# EAGLE library part CON_02X06 (library PP_Connectors)
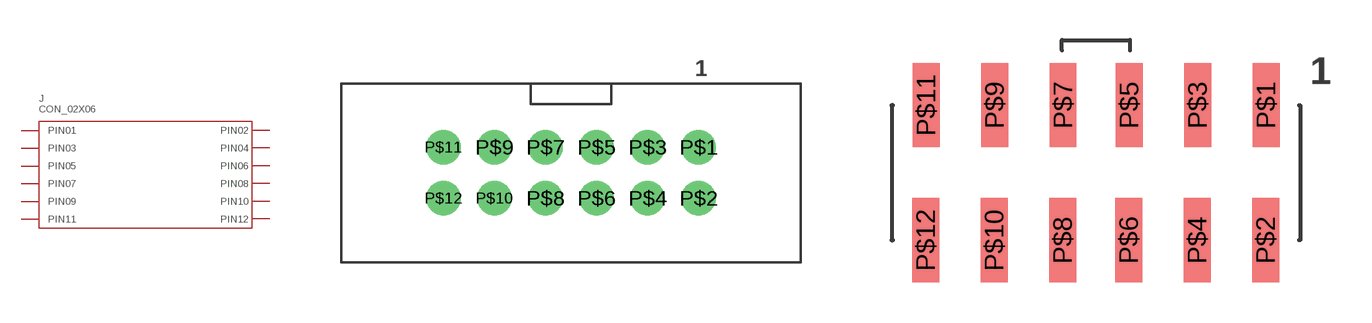
[diagram p29: symbol with the pads of 70246-1201; footprints 70246-1201, M20-8760642]

Designator prefix J

## CON_02X06_70246-1201  [70246-1201]
P$1  PIN1
P$2  PIN2
P$3  PIN3
P$4  PIN4
P$5  PIN5
P$6  PIN6
P$7  PIN7
P$8  PIN8
P$9  PIN9
P$10  PIN10
P$11  PIN11
P$12  PIN12

## CON_02X06_M20-8760642  [M20-8760642]
Pads as for 70246-1201

## Footprint 70246-1201 (pad centres in mm)
drill 1.14: P$1 6.35,1.27; P$2 6.35,-1.27; P$3 3.81,1.27; P$4 3.81,-1.27; P$5 1.27,1.27; P$6 1.27,-1.27; P$7 -1.27,1.27; P$8 -1.27,-1.27; P$9 -3.81,1.27; P$10 -3.81,-1.27; P$11 -6.35,1.27; P$12 -6.35,-1.27

## Footprint M20-8760642 (pad centres in mm)
smd 1 x 3.15: P$1 6.35,2.525; P$2 6.335,-2.525; P$3 3.795,2.525; P$4 3.78,-2.525; P$5 1.24,2.525; P$6 1.225,-2.525; P$7 -1.225,2.525; P$8 -1.24,-2.525; P$9 -3.78,2.525; P$10 -3.795,-2.525; P$11 -6.335,2.525; P$12 -6.35,-2.525